# Altium schematic symbol library LSF0204DPWR.SchLib: 1 symbol
Pins are listed as number, name and electrical type; pins without a type are passive.

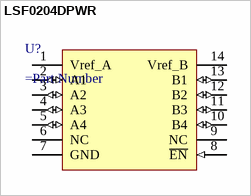
[diagram p0: symbol LSF0204DPWR]

## LSF0204DPWR
designator U?
=Description
pins: 1 Vref_A (power), 2 A1 (io), 3 A2 (io), 4 A3 (io), 5 A4 (io), 6 NC, 7 GND (power), 8 ~{EN} (in), 9 NC, 10 B4 (io), 11 B3 (io), 12 B2 (io), 13 B1 (io), 14 Vref_B (power)